# Altium footprint library SOP65P640X120-14N.PcbLib: 1 footprints
Each footprint in its own frame and in the unit in brackets; x right, y up, seen from the top. Pads: shape width x height; smd on the part's side, far side on the other; paste and mask are expansions set on the pad; w line width, h text height; cw(c..) or ccw(c..) is an arc to the next point about the centre after c.
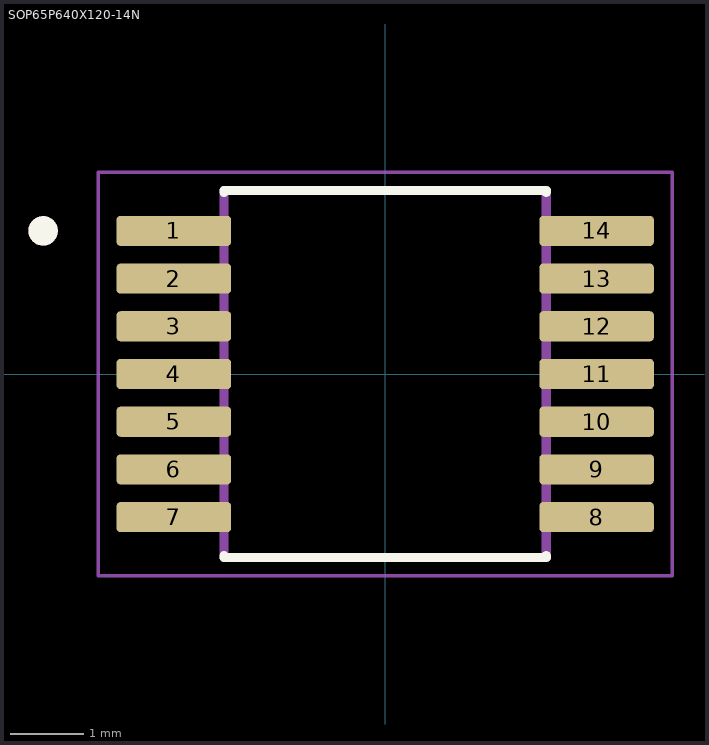
[diagram p0: the footprint, top view; thin cyan lines are the x and y axes]

## SOP65P640X120-14N [mm]
pads (14):
  rrect25% 1.56x0.41 smd: 1(-2.88,1.95) 2(-2.88,1.3) 3(-2.88,0.65) 4(-2.88,0) 5(-2.88,-0.65) 6(-2.88,-1.3) 7(-2.88,-1.95) 8(2.88,-1.95) 9(2.88,-1.3) 10(2.88,-0.65) 11(2.88,0) 12(2.88,0.65) 13(2.88,1.3) 14(2.88,1.95)
Top Overlay:
  circle w0.2: c-4.66,1.95 r0.1
  lines w0.127: -2.195,-2.475 -2.195,-2.5 2.195,-2.5 2.195,-2.475 ; -2.195,2.475 -2.195,2.5 2.195,2.5 2.195,2.475
Mechanical 13:
  circle w0.2: c-4.66,1.95 r0.1
  lines w0.127: -2.195,-2.5 -2.195,2.5 2.195,2.5 2.195,-2.5 -2.195,-2.5
Mechanical 15:
  lines w0.05: -3.91,-2.75 3.91,-2.75 3.91,2.75 -3.91,2.75 -3.91,-2.75
3D body "step_temp.STEP": height 1.2, standoff 0, extent -3.2,-2.5 3.2,2.5